# EAGLE library part 53398-0671 (library 53398-0671)
Molex PICOBLADE Series, Series Number 53398, 1.25mm Pitch 6 Way 1 Row Straight PCB Header, Solder Termination, 1A <https://componentsearchengine.com/Images/3/53398-0671.jpg> Source: Datasheet <http://docs-europe.electrocomponents.com/webdocs/13c4/0900766b813c4502.pdf>
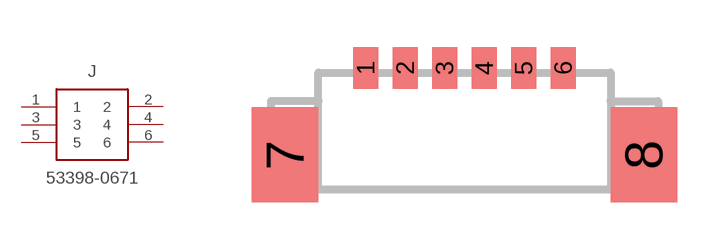
[diagram p0: symbol with the pads of 533980671; footprint 533980671]

Designator prefix J

## 53398-0671 (Allied_Number: 70090674; Description: Molex PICOBLADE Series, Series Number 53398, 1.25mm Pitch 6 Way 1 Row Straight PCB Header, Solder Termination, 1A; Height: mm; Manufacturer_Name: Molex; Manufacturer_Part_Number: 53398-0671; RS_Part_Number: 5427214P; Supplier_Name: RS)  [533980671]
1  1  pas
2  2  pas
3  3  pas
4  4  pas
5  5  pas
6  6  pas

## Footprint 533980671 (pad centres in mm)
533980671
smd 0.8 x 1.3: 1 -3.125,0.15; 2 -1.875,0.15; 3 -0.625,0.15; 4 0.625,0.15; 5 1.875,0.15; 6 3.125,0.15
smd 2.1 x 3: 7 -5.675,-2.6; 8 5.675,-2.6